# EAGLE library part SZNUP4114HMR6T1G (library SZNUP4114HMR6T1G)
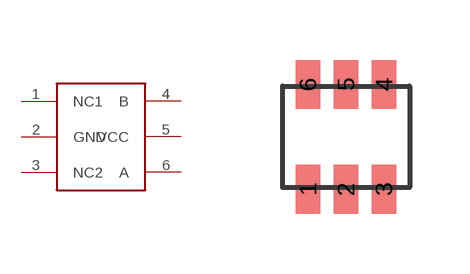
[diagram p0: symbol with the pads of TSOT-23-6; footprint TSOT-23-6]

Designator prefix -

## SZNUP4114HMR6T1G  [TSOT-23-6]
1  NC1
2  GND
3  NC2
4  B
5  VCC
6  A

## Footprint TSOT-23-6 (pad centres in mm)
smd 0.622 x 1.22: 1 -0.95,-1.31; 2 0,-1.31; 3 0.95,-1.31; 4 0.95,1.31; 5 0,1.31; 6 -0.95,1.31